# Altium schematic symbol library RB.SCHLIB: 31 symbols
Pins are listed as number, name and electrical type; pins without a type are passive.

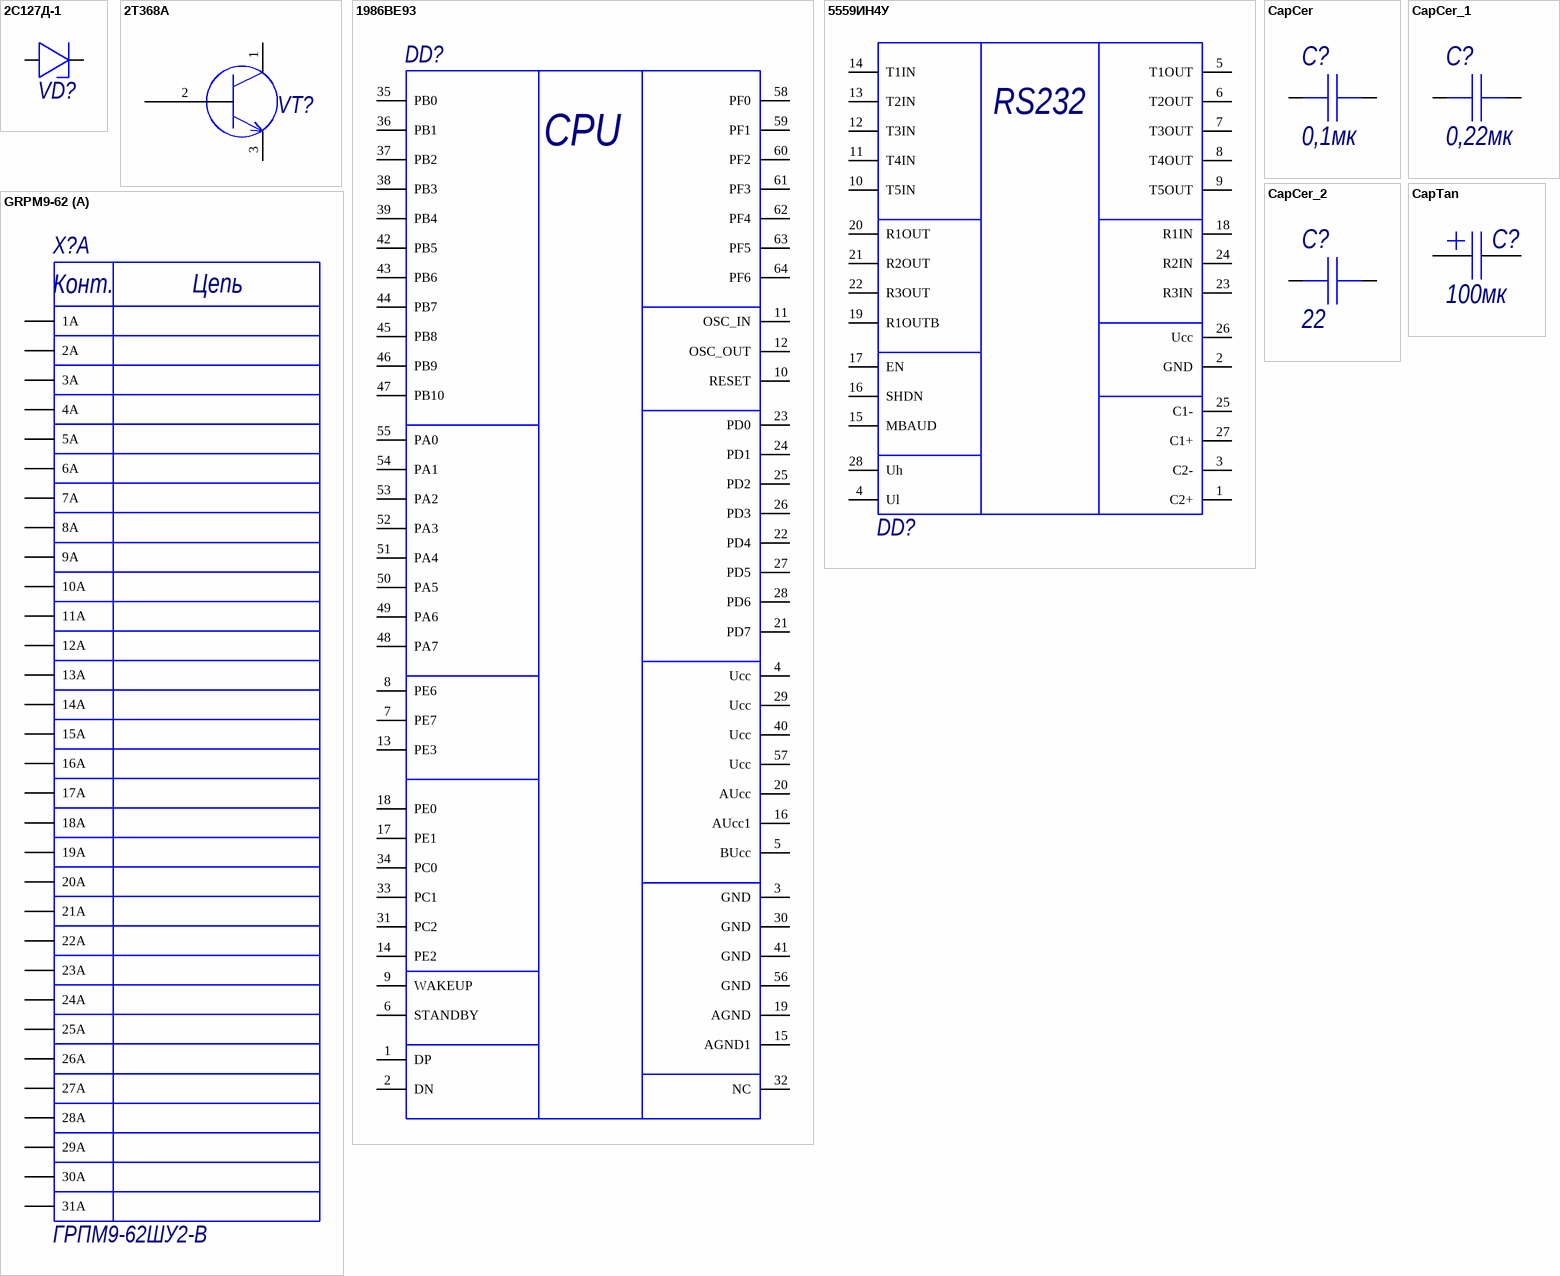
[diagram p0: symbols 2С127Д-1 to GRPM9-62]

## 2С127Д-1
designator VD?
manufacture: аА0.339.092ТУ; Name: Стабилитрон; Name_main: 2С133
footprint 2С127Д-1
pins: 1, 2

## 2Т368А
designator VT?
NPN транзистор; manufacture: аА0.339.092ТУ; Name_main: 2Т368А9; Name: Транзистор
footprint SOT100P230X95-3N (2T368A9) (SOT23, 3-Leads, Body 2,85x2,30mm, Pitch 1,00mm, IPC Medium Density)
pins: 1, 2, 3

## 1986ВЕ93
designator DD?
Микроконтроллер; manufacture: АЕЯР.431290.711ТУ; name: Микросхема; name_main: 1986ВЕ92У
footprint 1986ВЕ92У
pins: 1 DP, 2 DN, 3 GND, 4 Ucc, 5 BUcc, 6 STANDBY, 7 PE7, 8 PE6, 9 WAKEUP, 10 RESET, 11 OSC_IN, 12 OSC_OUT, 13 PE3, 14 PE2, 15 AGND1, 16 AUcc1, 17 PE1, 18 PE0, 19 AGND, 20 AUcc, 21 PD7, 22 PD4, 23 PD0, 24 PD1, 25 PD2, 26 PD3, 27 PD5, 28 PD6, 29 Ucc, 30 GND, 31 PC2, 32 NC, 33 PC1, 34 PC0, 35 PB0, 36 PB1, 37 PB2, 38 PB3, 39 PB4, 40 Ucc, 41 GND, 42 PB5, 43 PB6, 44 PB7, 45 PB8, 46 PB9, 47 PB10, 48 PA7, 49 PA6, 50 PA5, 51 PA4, 52 PA3, 53 PA2, 54 PA1, 55 PA0, 56 GND, 57 Ucc, 58 PF0, 59 PF1, 60 PF2, 61 PF3, 62 PF4, 63 PF5, 64 PF6
text: CPU

## 5559ИН4У
designator DD?
Приемопередатчик RS232; manufacture: АЕЯР.431230.460ТУ; name: Микросхема; name_main: 5559ИН4У
footprint 5559ИН4У
pins: 1 C2+, 2 GND, 3 C2-, 4 Ul, 5 T1OUT, 6 T2OUT, 7 T3OUT, 8 T4OUT, 9 T5OUT, 10 T5IN, 11 T4IN, 12 T3IN, 13 T2IN, 14 T1IN, 15 MBAUD, 16 SHDN, 17 EN, 18 R1IN, 19 R1OUTB, 20 R1OUT, 21 R2OUT, 22 R3OUT, 23 R3IN, 24 R2IN, 25 C1-, 26 Ucc, 27 C1+, 28 Uh
text: RS232

## CapCer
designator C?  value 0,1мк
Керамический конденсатор; manufacture: ОЖО.460.107ТУ; nameSuf: -3; name_main: К10-17в-Н90-; Units: Ф; Footpr: 1206; Name: Керамический конденсатор
footprint CAPC3419X15N(1206) (Chip Capacitor, 2-Leads, Body 3,35x1,90mm, IPC Medium Density)
pins: 1, 2

## CapCer_1
designator C?  value 0,22мк
Керамический конденсатор; manufacture: ОЖО.460.107ТУ; nameSuf: -3; name_main: К10-17в-Н30-; Units: Ф; Footpr: 1206; Name: Керамический конденсатор
footprint CAPC3419X15N(1206) (Chip Capacitor, 2-Leads, Body 3,35x1,90mm, IPC Medium Density)
pins: 1, 2

## CapCer_2
designator C?  value 22
Керамический конденсатор; manufacture: ОЖО.460.107ТУ; Tolerance: 10%; nameSuf: -1; name_main: К10-17в-МПО-; Units: Ф; Footpr: 0603; Name: Керамический конденсатор
footprint CAPC1608X09N (0603) (Chip Capacitor, 2-Leads, Body 1.60x0.80mm, IPC Medium Density)
pins: 1, 2

## CapTan
designator C?  value 100мк
Танталовый конденсатор; manufacture: АЖЯР.673546.004ТУ; name_main: К53-65-16В-; Units: Ф; Footpr: "E"; Name: Танталовый конденсатор
footprint Chip2PinSM127P600-8N(E)
pins: 1, 2
1 alternate drawing of the same symbol

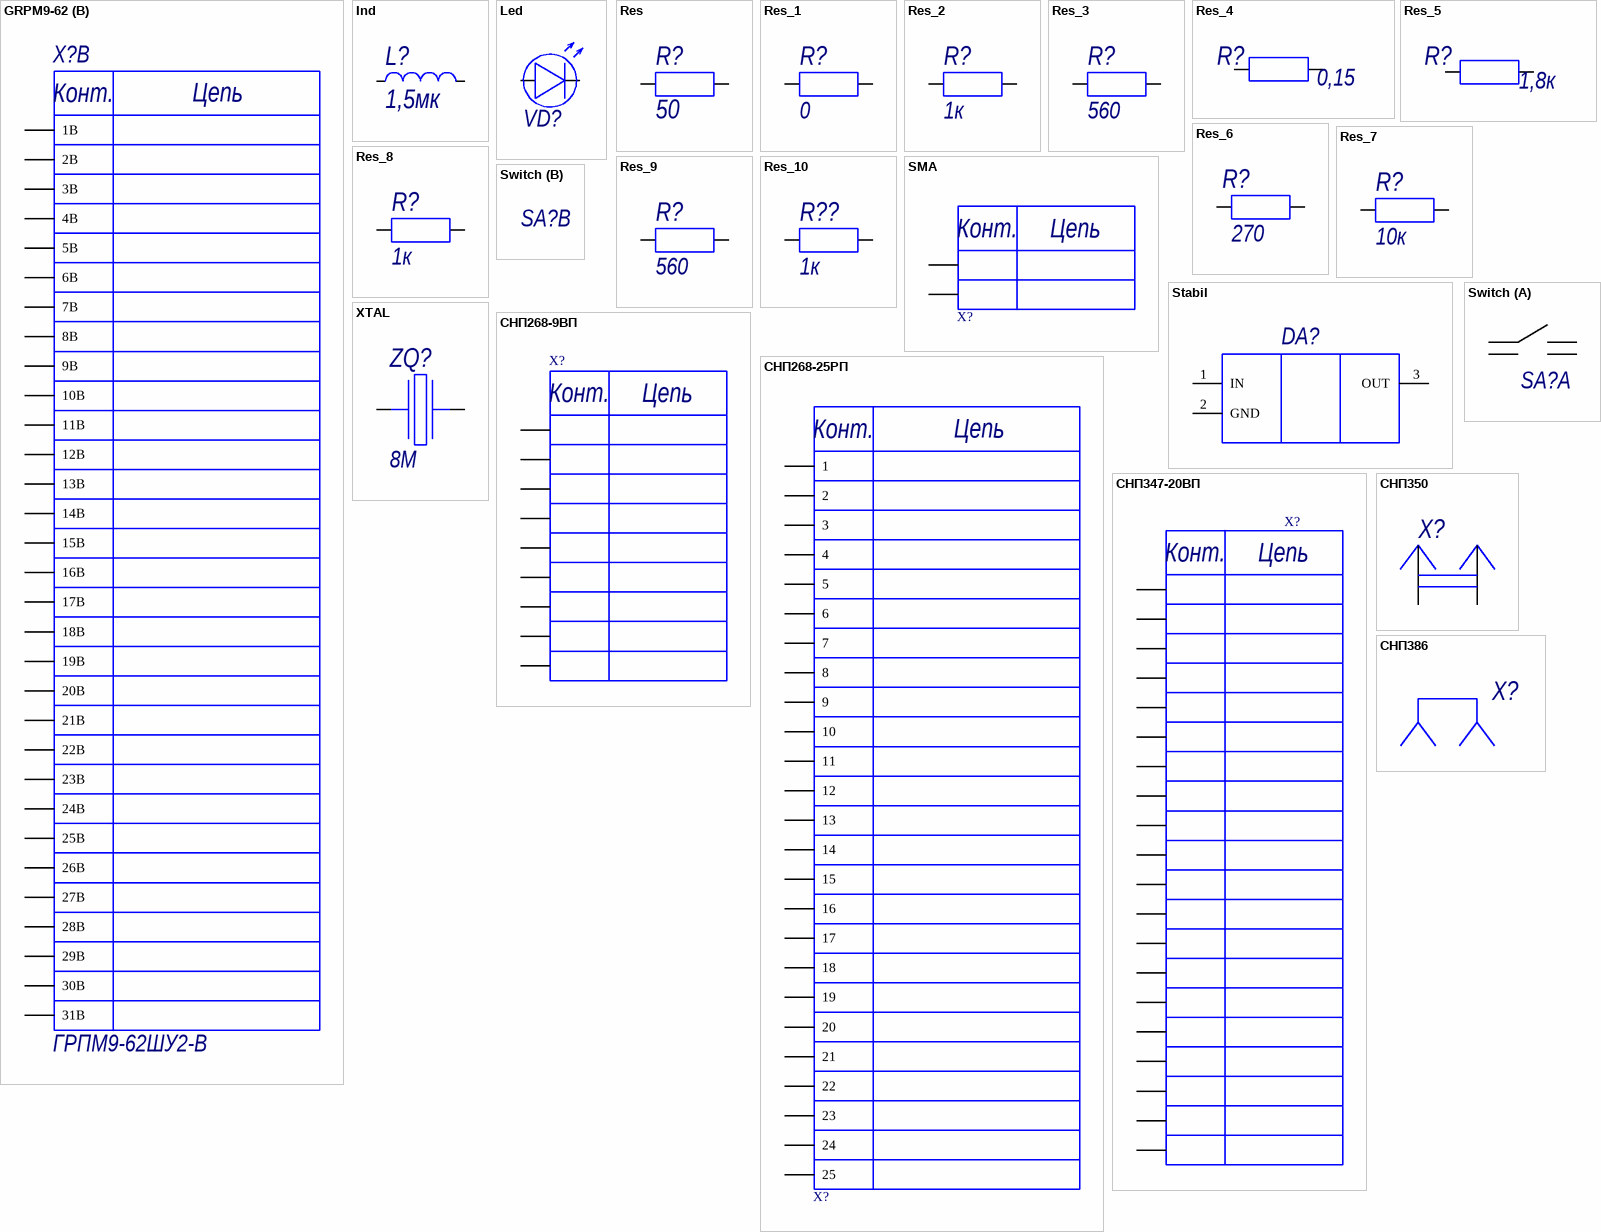
[diagram p1: symbols GRPM9-62 to СНП386]

## GRPM9-62
designator X?, comment ГРПМ9-62ШУ2-В
manufacture: Ке0.364.009ТУ; Name: Разъемы; name_main: ГРПМ9-62ШУ2-В
footprint ГРПМ9-62ШУ2-В
part A pins: 1A, 2A, 3A, 4A, 5A, 6A, 7A, 8A, 9A, 10A, 11A, 12A, 13A, 14A, 15A, 16A, 17A, 18A, 19A, 20A, 21A, 22A, 23A, 24A, 25A, 26A, 27A, 28A, 29A, 30A, 31A
part B pins: 1B, 2B, 3B, 4B, 5B, 6B, 7B, 8B, 9B, 10B, 11B, 12B, 13B, 14B, 15B, 16B, 17B, 18B, 19B, 20B, 21B, 22B, 23B, 24B, 25B, 26B, 27B, 28B, 29B, 30B, 31B
part A text: Конт.; Цепь
part B text: Конт.; Цепь

## Ind
designator L?  value 1,5мк
Катушка индуктивности; Manufacturer: КВШУ.670114.001ТУ; Units: Гн; name_main: МДГ1-1500; Name: Катушка индуктивности
footprint МДГ1-1500
pins: 1, 2

## Led
designator VD?
Индикатор; manufacture: аА0.339.189ТУ; Name_main: 3Л341Б; Name: Индикатор
footprint 3Л341Б
pins: 1, 2

## Res
designator R?  value 50
Резистор; Manufacturer: АЛЯР.434110.005ТУ; Tolerance: 5%; name_main: Р1-12-0,1-; Name: Резистор
footprint RESC1608X05N (0603) (Chip Resistor, 2-Leads, Body 1.60x0.85mm, IPC Medium Density)
pins: 1, 2

## Res_1
designator R?  value 0
Резистор; Manufacturer: АЛЯР.434110.005ТУ; Tolerance: 5%; name_main: Р1-12-0,1-; Name: Резистор
footprint RESC1608X05N (0603) (Chip Resistor, 2-Leads, Body 1.60x0.85mm, IPC Medium Density)
pins: 1, 2

## Res_2
designator R?  value 1к
Резистор; Manufacturer: АЛЯР.434110.005ТУ; Tolerance: 5%; name_main: Р1-12-0,1-; Units: Ом; Name: Резистор
footprint RESC1608X05N (0603) (Chip Resistor, 2-Leads, Body 1.60x0.85mm, IPC Medium Density)
pins: 1, 2

## Res_3
designator R?  value 560
Резистор; Manufacturer: АЛЯР.434110.005ТУ; Tolerance: 5%; name_main: Р1-12-0,125-; Units: Ом; Name: Резистор
footprint RESC1608X05N (0603) (Chip Resistor, 2-Leads, Body 1.60x0.85mm, IPC Medium Density)
pins: 1, 2

## Res_4
designator R?  value 0,15
Резистор; Manufacturer: АЛЯР.434110.005ТУ; Tolerance: 5%; name_main: Р1-12-0,1-; Name: Резистор
footprint RESC1608X05N (0603) (Chip Resistor, 2-Leads, Body 1.60x0.85mm, IPC Medium Density)
pins: 1, 2

## Res_5
designator R?  value 1,8к
Резистор; Manufacturer: АЛЯР.434110.005ТУ; Tolerance: 5%; name_main: Р1-12-0,1-; Units: Ом; Name: Резистор
footprint RESC1608X05N (0603) (Chip Resistor, 2-Leads, Body 1.60x0.85mm, IPC Medium Density)
pins: 1, 2

## Res_6
designator R?  value 270
Резистор; Manufacturer: АЛЯР.434110.005ТУ; Tolerance: 5%; name_main: Р1-12-0,125-; Name: Резистор
footprint RESC1608X05N (0603) (Chip Resistor, 2-Leads, Body 1.60x0.85mm, IPC Medium Density)
pins: 1, 2

## Res_7
designator R?  value 10к
Резистор; Manufacturer: АЛЯР.434110.005ТУ; Tolerance: 5%; name_main: Р1-12-0,125-; Units: Ом; Name: Резистор
footprint RESC1608X05N (0603) (Chip Resistor, 2-Leads, Body 1.60x0.85mm, IPC Medium Density)
pins: 1, 2

## Res_8
designator R?  value 1к
Резистор; Manufacturer: АЛЯР.434110.005ТУ; Tolerance: 5%; name_main: Р1-12-0,125-; Name: Резистор
footprint RESC1608X05N (0603) (Chip Resistor, 2-Leads, Body 1.60x0.85mm, IPC Medium Density)
pins: 1, 2

## Res_9
designator R?  value 560
Резистор; Manufacturer: АЛЯР.434110.005ТУ; Tolerance: 5%; name_main: Р1-12-0,1-; Units: Ом; Name: Резистор
footprint RESC1608X05N (0603) (Chip Resistor, 2-Leads, Body 1.60x0.85mm, IPC Medium Density)
pins: 1, 2

## Res_10
designator R??  value 1к
Резистор; Manufacturer: АЛЯР.434110.005ТУ; Tolerance: 5%; name_main: Р1-12-0,1-; Units: Ом; Name: Резистор
footprint RESC1608X05N (0603) (Chip Resistor, 2-Leads, Body 1.60x0.85mm, IPC Medium Density)
pins: 1, 2

## SMA
designator X?
manufacture: Чип&Дип; name: Разъемы; name_main: HYR-1149
footprint HYR-1149
pins: 1, 2
text: Конт.; Цепь

## Stabil
designator DA?
manufacture: АЕЯР.431420.638ТУ; name: Микросхема; name_main: 1303ЕН3.3П
footprint КТ-28А-2.01
pins: 1 IN, 2 GND, 3 OUT

## Switch
designator SA?, comment DS1040-02RN  (value not drawn)
Переключатель; Name: Переключатель; Name_main: DS1040-02RN
footprint DS1040-02RN
part A pins: 1, 2, 3, 4
1 alternate drawing of the same symbol

## XTAL
designator ZQ?  value 8М
Кварцевый резонатор; manufacture: ТУ6321-004-07614320-96; Units: Гц; name_main: РК386-П-8ДТ-8000К; Name: Кварцевый резонатор
footprint РК456
pins: 1 OSC1, 2 OSC2

## СНП268-9ВП
designator X?
manufacture: БСАР.430420.014ТУ; name: Разъемы; name_main: СНП268-9ВП32-1-3-В
footprint СНП268-9ВП32-1-4-В
pins: 1, 2, 3, 4, 5 (power), 6, 7, 8, 9
text: Конт.; Цепь

## СНП268-25РП
designator X?
manufacture: БСАР.430420.014ТУ; name: Разъемы; name_main: СНП268-25РП32-1-3-В
footprint СНП268-25РП32-1-4-В
pins: 1, 2, 3, 4, 5, 6, 7, 8, 9, 10, 11, 12, 13, 14, 15, 16, 17, 18, 19, 20, 21, 22, 23, 24, 25
text: Конт.; Цепь

## СНП347-20ВП
designator X?
manufacture: РЮМК.430420.012ТУ; name: Разъемы; name_main: СНП347-20ВП32-В
footprint СНП347-20ВП22-В
pins: 1, 2, 3, 4, 5, 6, 7, 8, 9, 10, 11, 12, 13, 14, 15, 16, 17, 18, 19, 20
text: Конт.; Цепь

## СНП350
designator X?
Соединитель на плату; Manufacturer: РЮМК.430420.011ТУ; name_main: СНП346-3ВП22-1-В
footprint PLS3 (Connector; Header; 3 Position)
pins: 1, 2

## СНП386
designator X?
Перемычка; Manufacturer: РЮМК.430420.032ТУ; name_main: СНП386-2Рд1-2